# Altium footprint library user.PcbLib: 17 footprints (part 2 of 2)
Each footprint in its own frame and in the unit in brackets; x right, y up, seen from the top. Pads: shape width x height; smd on the part's side, far side on the other; paste and mask are expansions set on the pad; w line width, h text height; cw(c..) or ccw(c..) is an arc to the next point about the centre after c.
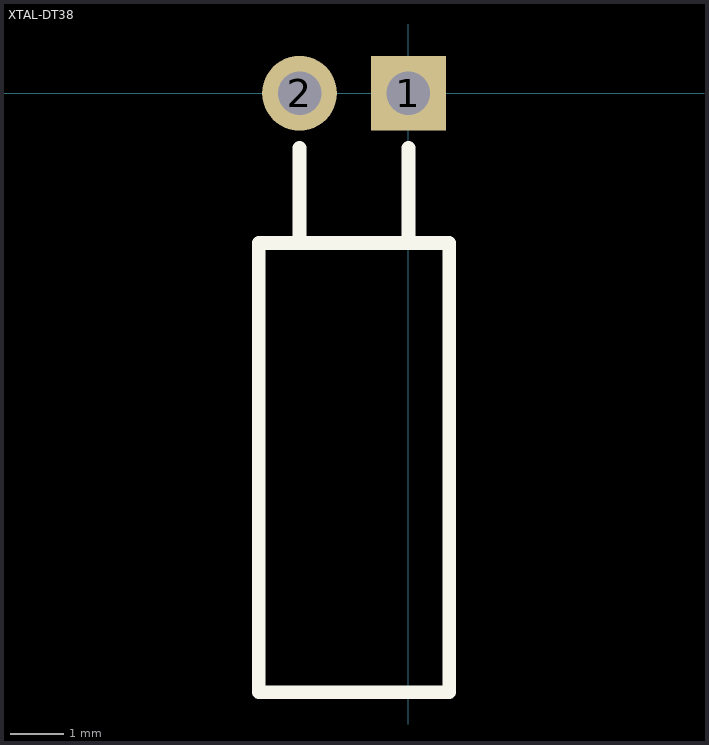
[diagram p1: the footprint, top view; thin cyan lines are the x and y axes]

## XTAL-DT38 [mil] "晶振3x8"
pads (2):
  rect 55x55 hole 32: 1(0,0)
  round 55 hole 32: 2(-80,0)
Top Overlay:
  lines w10: -80,-110 -80,-40 ; 0,-110 0,-40 ; -110,-440 30,-440 30,-110 -110,-110 -110,-440